# Altium footprint library WRIS-KWKH.PcbLib: 2 footprints
Each footprint in its own frame and in the unit in brackets; x right, y up, seen from the top. Pads: shape width x height; smd on the part's side, far side on the other; paste and mask are expansions set on the pad; w line width, h text height; cw(c..) or ccw(c..) is an arc to the next point about the centre after c.
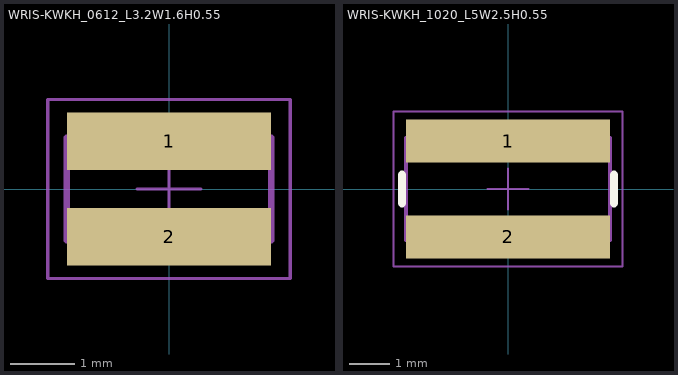
[diagram p0: the footprints below, top view; thin cyan lines are the x and y axes]

## WRIS-KWKH_0612_L3.2W1.6H0.55 [mm] "Thick Film Resistors, SMT, body size 3.2x1.6mm"
height 0.55
pads (2):
  rect 3.2x0.9 smd: 1(0,0.75) 2(0,-0.75)
Top Designator:
  text ".Designator" at -3.499,-0.233 h0.7
Top Component Outline:
  lines w0.1: -1.6,-0.8 -1.6,0.8 1.6,0.8 1.6,-0.8 -1.6,-0.8
Top Courtyard:
  lines w0.05: -0.5,0 0.5,0 ; 0,-0.5 0,0.5 ; -1.9,-1.4 1.9,-1.4 1.9,1.4 -1.9,1.4 -1.9,-1.4
3D body "WRIS-KWKH_0612.stp": height 0.55, standoff 0, extent -1.6,-0.8 1.6,0.8

## WRIS-KWKH_1020_L5W2.5H0.55 [mm] "Thick Film Resistors, SMT, body size 5x2.5mm"
height 0.55
pads (2):
  rect 5x1.05 smd: 1(0,1.175) 2(0,-1.175)
Top Overlay:
  lines w0.2: -2.6,-0.35 -2.6,0.35 ; 2.6,-0.35 2.6,0.35
Top Designator:
  text ".Designator" at -7.498,-0.5 h1.5
Top Component Outline:
  lines w0.1: -2.5,-1.25 2.5,-1.25 2.5,1.25 -2.5,1.25 -2.5,-1.25
Top Courtyard:
  lines w0.05: -0.5,0 0.5,0 ; 0,-0.5 0,0.5 ; -2.8,-1.9 2.8,-1.9 2.8,1.9 -2.8,1.9 -2.8,-1.9
3D body "WRIS-KWKH_1020.stp": height 0.55, standoff 0, extent -2.5,-1.25 2.5,1.25